# Altium footprint library PCB - CONNECTOR - SAMTEC TSW-106-07-F-D.PCBLIB: 1 footprints
Each footprint in its own frame and in the unit in brackets; x right, y up, seen from the top. Pads: shape width x height; smd on the part's side, far side on the other; paste and mask are expansions set on the pad; w line width, h text height; cw(c..) or ccw(c..) is an arc to the next point about the centre after c.
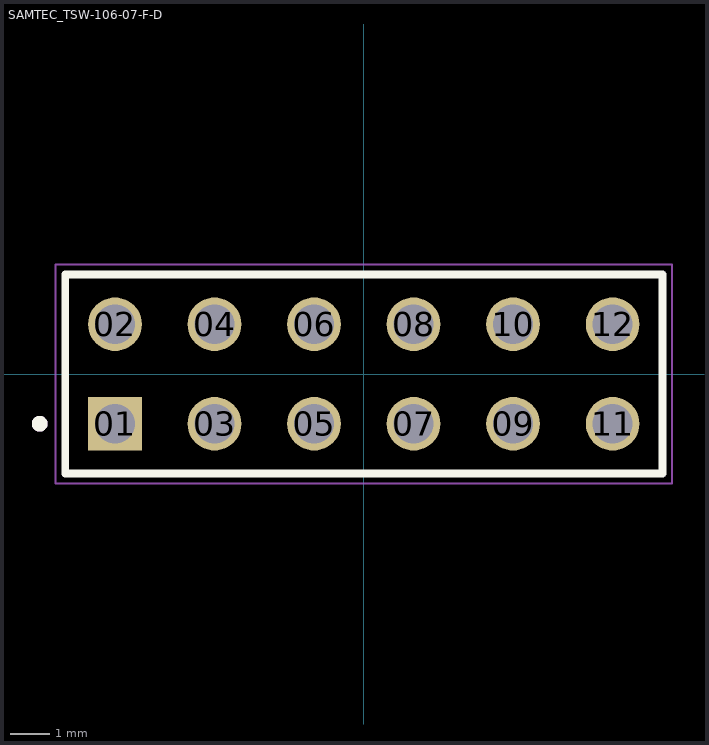
[diagram p0: the footprint, top view; thin cyan lines are the x and y axes]

## SAMTEC_TSW-106-07-F-D [mm]
pads (12):
  rect 1.37x1.37 hole 1.02: 01(-6.35,-1.27)
  round 1.37 hole 1.02: 02(-6.35,1.27) 03(-3.81,-1.27) 04(-3.81,1.27) 05(-1.27,-1.27) 06(-1.27,1.27) 07(1.27,-1.27) 08(1.27,1.27) 09(3.81,-1.27) 10(3.81,1.27) 11(6.35,-1.27) 12(6.35,1.27)
Top Overlay:
  circle w0.2: c-8.27,-1.27 r0.1
  lines w0.2: -7.62,-2.54 7.62,-2.54 7.62,2.54 -7.62,2.54 -7.62,-2.54
Top Assembly:
  circle w0.2: c-8.27,-1.27 r0.1
  lines w0.1: -7.62,-2.54 -7.62,2.54 ; -7.62,-2.54 7.62,-2.54 ; -7.62,-2.54 -7.62,2.54 ; -7.62,2.54 7.62,2.54 ; -7.62,2.54 7.62,2.54 ; 7.62,-2.54 7.62,2.54 ; 7.62,-2.54 7.62,2.54
Top Courtyard:
  lines w0.05: -7.87,-2.79 7.87,-2.79 7.87,2.79 -7.87,2.79 -7.87,-2.79
Top Designator:
  text ".Designator" at -7.841,-3.655 h1
Top Value (Mech13):
  text ".Comment" at 3.683,-3.672 h1